# EAGLE library part 74HC595D (library logicIC)
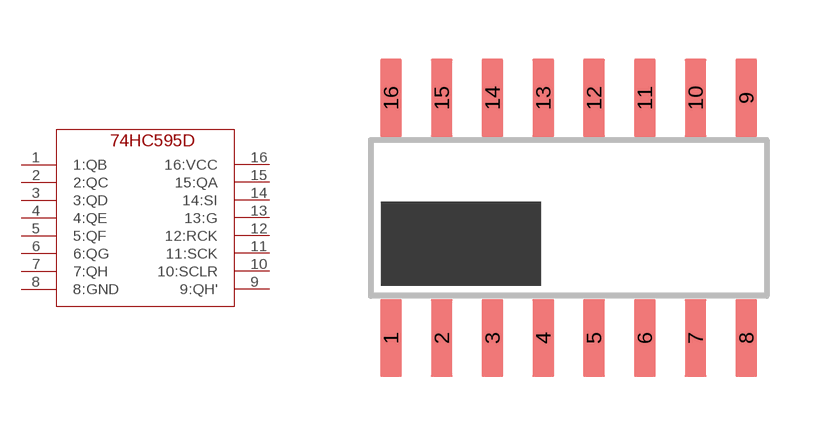
[diagram p3: symbol with the pads of SOIC16; footprint SOIC16]

Designator prefix -

## 74HC595D  [SOIC16]
1  1:QB
2  2:QC
3  3:QD
4  4:QE
5  5:QF
6  6:QG
7  7:QH
8  8:GND
9  9:QH'
10  10:SCLR
11  11:SCK
12  12:RCK
13  13:G
14  14:SI
15  15:QA
16  16:VCC

## Footprint SOIC16 (pad centres in mm)
smd 0.55 x 1.95: 1 -4.445,-3; 2 -3.175,-3; 3 -1.905,-3; 4 -0.635,-3; 5 0.635,-3; 6 1.905,-3; 7 3.175,-3; 8 4.445,-3; 9 4.445,3; 10 3.175,3; 11 1.905,3; 12 0.635,3; 13 -0.635,3; 14 -1.905,3; 15 -3.175,3; 16 -4.445,3